# Altium schematic symbol library L6902D.SchLib: 1 symbol
Pins are listed as number, name and electrical type; pins without a type are passive.

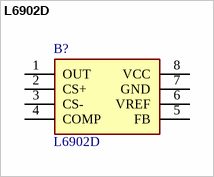
[diagram p0: symbol L6902D]

## L6902D
designator B?
L6902D, Switching Regulator, Buck Controller, 1A, Adjustable, 1.235  34 V, 275 kHz, 8-Pin SO; Manufacturer_Name: STMicroelectronics; Geometry.Height: 1.75mm; TME Electronic Components Part Number: *; TME Electronic Components Price/Stock: *; Manufacturer_Part_Number: L6902D; Datasheet Link: https://www.st.com/resource/en/datasheet/l6902.pdf
footprint SOIC127P600X175-8N
pins: 1 OUT, 2 CS+, 3 CS-, 4 COMP, 5 FB, 6 VREF, 7 GND, 8 VCC